# Altium footprint library Main.PcbLib: 56 footprints (part 4 of 4)
Each footprint in its own frame and in the unit in brackets; x right, y up, seen from the top. Pads: shape width x height; smd on the part's side, far side on the other; paste and mask are expansions set on the pad; w line width, h text height; cw(c..) or ccw(c..) is an arc to the next point about the centre after c.
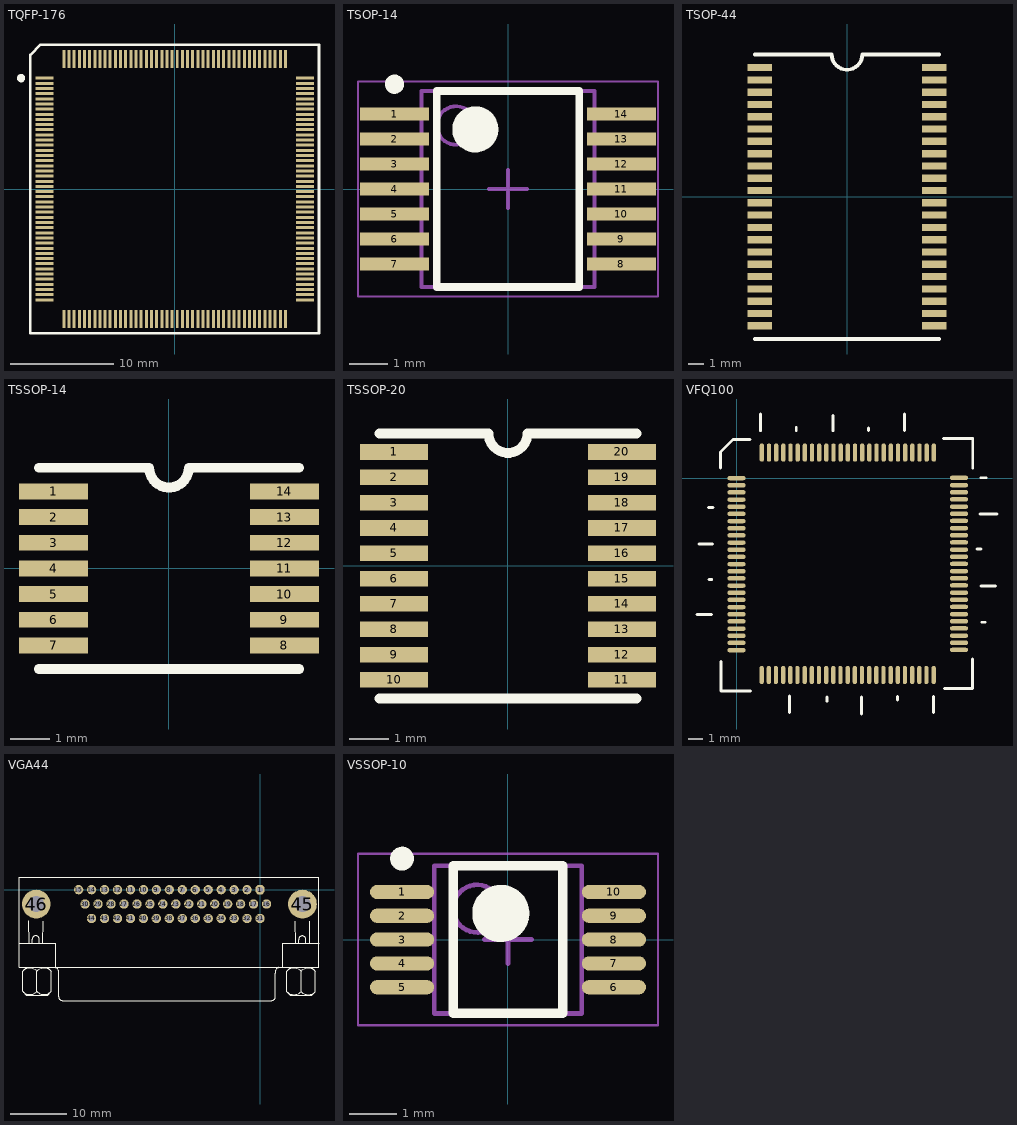
[diagram p3: the footprints below, top view; thin cyan lines are the x and y axes]

## TQFP-176 [mm]
height 1.1
pads (176):
  rect 1.75x0.29 smd: 1(-12.625,10.75) 2(-12.625,10.25) 3(-12.625,9.75) 4(-12.625,9.25) 5(-12.625,8.75) 6(-12.625,8.25) 7(-12.625,7.75) 8(-12.625,7.25) 9(-12.625,6.75) 10(-12.625,6.25) 11(-12.625,5.75) 12(-12.625,5.25) 13(-12.625,4.75) 14(-12.625,4.25) 15(-12.625,3.75) 16(-12.625,3.25) 17(-12.625,2.75) 18(-12.625,2.25) 19(-12.625,1.75) 20(-12.625,1.25) 21(-12.625,0.75) 22(-12.625,0.25) 23(-12.625,-0.25) 24(-12.625,-0.75) 25(-12.625,-1.25) 26(-12.625,-1.75) 27(-12.625,-2.25) 28(-12.625,-2.75) 29(-12.625,-3.25) 30(-12.625,-3.75) 31(-12.625,-4.25) 32(-12.625,-4.75) 33(-12.625,-5.25) 34(-12.625,-5.75) 35(-12.625,-6.25) 36(-12.625,-6.75) 37(-12.625,-7.25) 38(-12.625,-7.75) 39(-12.625,-8.25) 40(-12.625,-8.75) 41(-12.625,-9.25) 42(-12.625,-9.75) 43(-12.625,-10.25) 44(-12.625,-10.75) 89(12.625,-10.75) 90(12.625,-10.25) 91(12.625,-9.75) 92(12.625,-9.25) 93(12.625,-8.75) 94(12.625,-8.25) 95(12.625,-7.75) 96(12.625,-7.25) 97(12.625,-6.75) 98(12.625,-6.25) 99(12.625,-5.75) 100(12.625,-5.25) 101(12.625,-4.75) 102(12.625,-4.25) 103(12.625,-3.75) 104(12.625,-3.25) 105(12.625,-2.75) 106(12.625,-2.25) 107(12.625,-1.75) 108(12.625,-1.25) 109(12.625,-0.75) 110(12.625,-0.25) 111(12.625,0.25) 112(12.625,0.75) 113(12.625,1.25) 114(12.625,1.75) 115(12.625,2.25) 116(12.625,2.75) 117(12.625,3.25) 118(12.625,3.75) 119(12.625,4.25) 120(12.625,4.75) 121(12.625,5.25) 122(12.625,5.75) 123(12.625,6.25) 124(12.625,6.75) 125(12.625,7.25) 126(12.625,7.75) 127(12.625,8.25) 128(12.625,8.75) 129(12.625,9.25) 130(12.625,9.75) 131(12.625,10.25) 132(12.625,10.75)
  rect 0.29x1.75 smd: 45(-10.75,-12.625) 46(-10.25,-12.625) 47(-9.75,-12.625) 48(-9.25,-12.625) 49(-8.75,-12.625) 50(-8.25,-12.625) 51(-7.75,-12.625) 52(-7.25,-12.625) 53(-6.75,-12.625) 54(-6.25,-12.625) 55(-5.75,-12.625) 56(-5.25,-12.625) 57(-4.75,-12.625) 58(-4.25,-12.625) 59(-3.75,-12.625) 60(-3.25,-12.625) 61(-2.75,-12.625) 62(-2.25,-12.625) 63(-1.75,-12.625) 64(-1.25,-12.625) 65(-0.75,-12.625) 66(-0.25,-12.625) 67(0.25,-12.625) 68(0.75,-12.625) 69(1.25,-12.625) 70(1.75,-12.625) 71(2.25,-12.625) 72(2.75,-12.625) 73(3.25,-12.625) 74(3.75,-12.625) 75(4.25,-12.625) 76(4.75,-12.625) 77(5.25,-12.625) 78(5.75,-12.625) 79(6.25,-12.625) 80(6.75,-12.625) 81(7.25,-12.625) 82(7.75,-12.625) 83(8.25,-12.625) 84(8.75,-12.625) 85(9.25,-12.625) 86(9.75,-12.625) 87(10.25,-12.625) 88(10.75,-12.625) 133(10.75,12.625) 134(10.25,12.625) 135(9.75,12.625) 136(9.25,12.625) 137(8.75,12.625) 138(8.25,12.625) 139(7.75,12.625) 140(7.25,12.625) 141(6.75,12.625) 142(6.25,12.625) 143(5.75,12.625) 144(5.25,12.625) 145(4.75,12.625) 146(4.25,12.625) 147(3.75,12.625) 148(3.25,12.625) 149(2.75,12.625) 150(2.25,12.625) 151(1.75,12.625) 152(1.25,12.625) 153(0.75,12.625) 154(0.25,12.625) 155(-0.25,12.625) 156(-0.75,12.625) 157(-1.25,12.625) 158(-1.75,12.625) 159(-2.25,12.625) 160(-2.75,12.625) 161(-3.25,12.625) 162(-3.75,12.625) 163(-4.25,12.625) 164(-4.75,12.625) 165(-5.25,12.625) 166(-5.75,12.625) 167(-6.25,12.625) 168(-6.75,12.625) 169(-7.25,12.625) 170(-7.75,12.625) 171(-8.25,12.625) 172(-8.75,12.625) 173(-9.25,12.625) 174(-9.75,12.625) 175(-10.25,12.625) 176(-10.75,12.625)
Top Overlay:
  circle w0.4: c-14.9,10.75 r0.2
  lines w0.25: -14,-14 14,-14 14,14 -13,14 -14,13 -14,-14

## TSOP-14 [mm] "TSOP, 16-Leads, Body 5.00x4.40mm, Pitch 0.65mm, IPC Medium Density"
height 1.2
pads (14):
  rect 1.8x0.35 smd: 1(-2.95,1.95) 2(-2.95,1.3) 3(-2.95,0.65) 4(-2.95,0) 5(-2.95,-0.65) 6(-2.95,-1.3) 7(-2.95,-1.95) 8(2.95,-1.95) 9(2.95,-1.3) 10(2.95,-0.65) 11(2.95,0) 12(2.95,0.65) 13(2.95,1.3) 14(2.95,1.95)
Top Overlay:
  circle w0.6: c-0.85,1.55 r0.3
  circle w0.25: c-2.95,2.725 r0.125
  lines w0.2: -1.85,-2.55 1.85,-2.55 1.85,2.55 -1.85,2.55 -1.85,-2.55
Mechanical 13:
  circle w0.1: c-1.35,1.65 r0.5
  lines w0.1: -2.25,-2.55 2.25,-2.55 2.25,2.55 -2.25,2.55 -2.25,-2.55
Mechanical 15:
  lines w0.05: -3.9,-2.8 3.9,-2.8 3.9,2.8 -3.9,2.8 -3.9,-2.8
  lines w0.1: -0.5,0 0.5,0 ; 0,-0.5 0,0.5
3D body: height 1.2, standoff 0.1, extent -2.25,-2.55 2.25,2.55

## TSOP-44 [mm]
height 1.1
pads (44):
  rect 1.6x0.47 smd: 1(-5.68,8.4) 2(-5.68,7.6) 3(-5.68,6.8) 4(-5.68,6) 5(-5.68,5.2) 6(-5.68,4.4) 7(-5.68,3.6) 8(-5.68,2.8) 9(-5.68,2) 10(-5.68,1.2) 11(-5.68,0.4) 12(-5.68,-0.4) 13(-5.68,-1.2) 14(-5.68,-2) 15(-5.68,-2.8) 16(-5.68,-3.6) 17(-5.68,-4.4) 18(-5.68,-5.2) 19(-5.68,-6) 20(-5.68,-6.8) 21(-5.68,-7.6) 22(-5.68,-8.4) 23(5.68,-8.4) 24(5.68,-7.6) 25(5.68,-6.8) 26(5.68,-6) 27(5.68,-5.2) 28(5.68,-4.4) 29(5.68,-3.6) 30(5.68,-2.8) 31(5.68,-2) 32(5.68,-1.2) 33(5.68,-0.4) 34(5.68,0.4) 35(5.68,1.2) 36(5.68,2) 37(5.68,2.8) 38(5.68,3.6) 39(5.68,4.4) 40(5.68,5.2) 41(5.68,6) 42(5.68,6.8) 43(5.68,7.6) 44(5.68,8.4)
Top Overlay:
  lines w0.25: -5.98,-9.26 5.98,-9.26 ; -5.98,9.26 -1,9.26 ccw(c0,9.26) 1,9.26 5.98,9.26

## TSSOP-14 [mm]
height 1.1
pads (14):
  rect 1.75x0.4 smd: 1(-2.925,1.95) 2(-2.925,1.3) 3(-2.925,0.65) 4(-2.925,0) 5(-2.925,-0.65) 6(-2.925,-1.3) 7(-2.925,-1.95) 8(2.925,-1.95) 9(2.925,-1.3) 10(2.925,-0.65) 11(2.925,0) 12(2.925,0.65) 13(2.925,1.3) 14(2.925,1.95)
Top Overlay:
  lines w0.25: -3.3,-2.55 3.3,-2.55 ; -3.3,2.55 -0.5,2.55 ccw(c0,2.55) 0.5,2.55 3.3,2.55

## TSSOP-20 [mm]
height 1.1
pads (20):
  rect 1.75x0.4 smd: 1(-2.925,2.925) 2(-2.925,2.275) 3(-2.925,1.625) 4(-2.925,0.975) 5(-2.925,0.325) 6(-2.925,-0.325) 7(-2.925,-0.975) 8(-2.925,-1.625) 9(-2.925,-2.275) 10(-2.925,-2.925) 11(2.925,-2.925) 12(2.925,-2.275) 13(2.925,-1.625) 14(2.925,-0.975) 15(2.925,-0.325) 16(2.925,0.325) 17(2.925,0.975) 18(2.925,1.625) 19(2.925,2.275) 20(2.925,2.925)
Top Overlay:
  lines w0.25: -3.3,-3.4 3.3,-3.4 ; -3.3,3.4 -0.5,3.4 ccw(c0,3.4) 0.5,3.4 3.3,3.4

## VFQ100 [mil]
pads (100):
  oval 50x12 smd: 1(0,0) 2(0,-19.68) 3(0,-39.37) 4(0,-59.06) 5(0,-78.74) 6(0,-98.43) 7(0,-118.11) 8(0,-137.8) 9(0,-157.48) 10(0,-177.17) 11(0,-196.85) 12(0,-216.54) 13(0,-236.22) 14(0,-255.91) 15(0,-275.59) 16(0,-295.28) 17(0,-314.96) 18(0,-334.65) 19(0,-354.33) 20(0,-374.02) 21(0,-393.7) 22(0,-413.39) 23(0,-433.07) 24(0,-452.76) 25(0,-472.44) 51(611,-472) 52(611,-452.31) 53(611,-432.63) 54(611,-412.94) 55(611,-393.26) 56(611,-373.57) 57(611,-353.89) 58(611,-334.2) 59(611,-314.52) 60(611,-294.83) 61(611,-275.15) 62(611,-255.46) 63(611,-235.78) 64(611,-216.09) 65(611,-196.41) 66(611,-176.72) 67(611,-157.04) 68(611,-137.35) 69(611,-117.67) 70(611,-97.98) 71(611,-78.3) 72(611,-58.61) 73(611,-38.93) 74(611,-19.24) 75(611,0.44)
  oval 12x50 smd: 26(69,-541) 27(88.69,-541) 28(108.37,-541) 29(128.06,-541) 30(147.74,-541) 31(167.43,-541) 32(187.11,-541) 33(206.8,-541) 34(226.48,-541) 35(246.17,-541) 36(265.85,-541) 37(285.54,-541) 38(305.22,-541) 39(324.91,-541) 40(344.59,-541) 41(364.28,-541) 42(383.96,-541) 43(403.65,-541) 44(423.33,-541) 45(443.02,-541) 46(462.7,-541) 47(482.39,-541) 48(502.07,-541) 49(521.76,-541) 50(541.44,-541) 76(542,70) 77(522.32,70) 78(502.63,70) 79(482.94,70) 80(463.26,70) 81(443.57,70) 82(423.89,70) 83(404.2,70) 84(384.52,70) 85(364.83,70) 86(345.15,70) 87(325.46,70) 88(305.78,70) 89(286.09,70) 90(266.41,70) 91(246.72,70) 92(227.04,70) 93(207.35,70) 94(187.67,70) 95(167.98,70) 96(148.3,70) 97(128.61,70) 98(108.93,70) 99(89.24,70) 100(69.56,70)
Top Overlay:
  lines w8: -108,-375 -69,-375 ; -103,-181 -66,-181 ; -77,-81 -64,-81 ; -76,-279 -68,-279 ; -44,28 -44,72 -10,106 37,106 ; -43,-504 -43,-585 38,-585 ; 66,130 66,176 ; 145,-644 145,-598 ; 164,131 164,139 ; 248,-613 248,-601 ; 265,130 265,172 ; 343,-648 343,-601 ; 363,131 363,138 ; 442,-609 442,-600 ; 461,131 461,176 ; 541,-644 541,-600 ; 569,109 649,109 649,27 ; 571,-578 648,-578 648,-497 ; 661,-195 671,-195 ; 669,-99 715,-99 ; 671,-296 711,-296 ; 671,1 685,1 ; 674,-396 683,-396

## VGA44 [mil]
pads (46):
  oct 65x65 hole 40: 1(0,0)
  round 65 hole 40: 2(-90.16,0) 3(-180.31,0) 4(-270.47,0) 5(-360.63,0) 6(-450.79,0) 7(-540.95,0) 8(-631.1,0) 9(-721.26,0) 10(-811.42,0) 11(-901.57,0) 12(-991.73,0) 13(-1081.89,0) 14(-1172.05,0) 15(-1262.2,0) 16(45,-100) 17(-45.16,-100) 18(-135.31,-100) 19(-225.47,-100) 20(-315.63,-100) 21(-405.79,-100) 22(-495.94,-100) 23(-586.1,-100) 24(-676.26,-100) 25(-766.42,-100) 26(-856.57,-100) 27(-946.73,-100) 28(-1036.89,-100) 29(-1127.05,-100) 30(-1217.2,-100) 31(-0.16,-200) 32(-90.31,-200) 33(-180.47,-200) 34(-270.63,-200) 35(-360.79,-200) 36(-450.94,-200) 37(-541.1,-200) 38(-631.26,-200) 39(-721.42,-200) 40(-811.57,-200) 41(-901.73,-200) 42(-991.89,-200) 43(-1082.05,-200) 44(-1172.2,-200)
  round 200 hole 110: 45(294.97,-100) 46(-1557,-100)
Top Overlay:
  lines w7.87: -1677.02,-540.98 -1677,85 ; -1676.61,-541 409.54,-541 ; -1676.61,85 409.54,85 ; -1426.02,-541 cw(c-1433.52,-573.5) -1401.02,-581 -1401.02,-746 ccw(c-1376.02,-746) -1376.02,-771 81.98,-771 ; 80.98,-771 ccw(c80.98,-746) 105.98,-746 ; 105.86,-746 105.86,-581 ; 105.98,-581 cw(c138.48,-573.5) 130.98,-541 ; 409.97,-540.98 409.98,85
  lines w8: -1677,-371 -1425.42,-371 -1425.08,-540 ; -1652.25,-708.09 ccw(c-1602.17,-658) -1552.08,-708.09 ; -1652.25,-566.25 cw(c-1602.17,-616.33) -1552.08,-566.25 ; -1627.17,-541.33 -1652.17,-566.33 -1652.17,-708 -1627.17,-733 -1477.17,-733 -1452.17,-708 -1452.17,-566.33 -1477.17,-541.33 ; -1611,-217 -1610.42,-371 ; -1585.42,-371 -1585.42,-346 cw(c-1560.42,-346) -1535.42,-346 -1535.42,-371 ; -1552.25,-708.09 ccw(c-1502.17,-658) -1452.08,-708.09 ; -1552.25,-566.25 cw(c-1502.17,-616.33) -1452.08,-566.25 ; -1552.17,-708 -1552.17,-566.33 ; -1510.42,-371 -1510,-219 ; 158.08,-541 158.42,-372 410,-372 ; 185.08,-709.09 ccw(c235.17,-659) 285.25,-709.09 ; 185.08,-567.25 cw(c235.17,-617.33) 285.25,-567.25 ; 210.17,-542.33 185.17,-567.33 185.17,-709 210.17,-734 360.17,-734 385.17,-709 385.17,-567.33 360.17,-542.33 ; 243,-219 243.42,-372 ; 268.42,-372 268.42,-347 cw(c293.42,-347) 318.42,-347 318.42,-372 ; 285.08,-709.09 ccw(c335.17,-659) 385.25,-709.09 ; 285.08,-567.25 cw(c335.17,-617.33) 385.25,-567.25 ; 285.17,-709 285.17,-567.33 ; 343,-219 343.42,-372

## VSSOP-10 [mm]
height 1.1
pads (10):
  oval 1.35x0.3 smd: 1(-2.225,1) 2(-2.225,0.5) 3(-2.225,0) 4(-2.225,-0.5) 5(-2.225,-1) 6(2.225,-1) 7(2.225,-0.5) 8(2.225,0) 9(2.225,0.5) 10(2.225,1)
Top Overlay:
  circle w0.25: c-2.225,1.7 r0.125
  circle w0.6: c-0.15,0.55 r0.3
  lines w0.2: -1.15,-1.55 -1.15,1.55 1.15,1.55 1.15,-1.55 -1.15,-1.55
Mechanical 13:
  circle w0.1: c-0.65,0.65 r0.5
  lines w0.1: -1.55,-1.55 -1.55,1.55 1.55,1.55 1.55,-1.55 -1.55,-1.55
Mechanical 15:
  lines w0.05: -3.15,-1.8 -3.15,1.8 3.15,1.8 3.15,-1.8 -3.15,-1.8
  lines w0.1: -0.5,0 0.5,0 ; 0,-0.5 0,0.5
3D body: height 1.1, standoff 0.1, extent -1.55,-1.55 1.55,1.55